# Altium schematic symbol library 11AA02E64.Schlib: 1 symbol
Pins are listed as number, name and electrical type; pins without a type are passive.

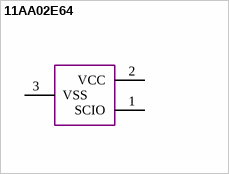
[diagram p0: symbol 11AA02E64]

## 11AA02E64
designator U?
pins: 1 SCIO, 2 VCC, 3 VSS